# EAGLE library part XMOS_X0 (library sjg-laser)
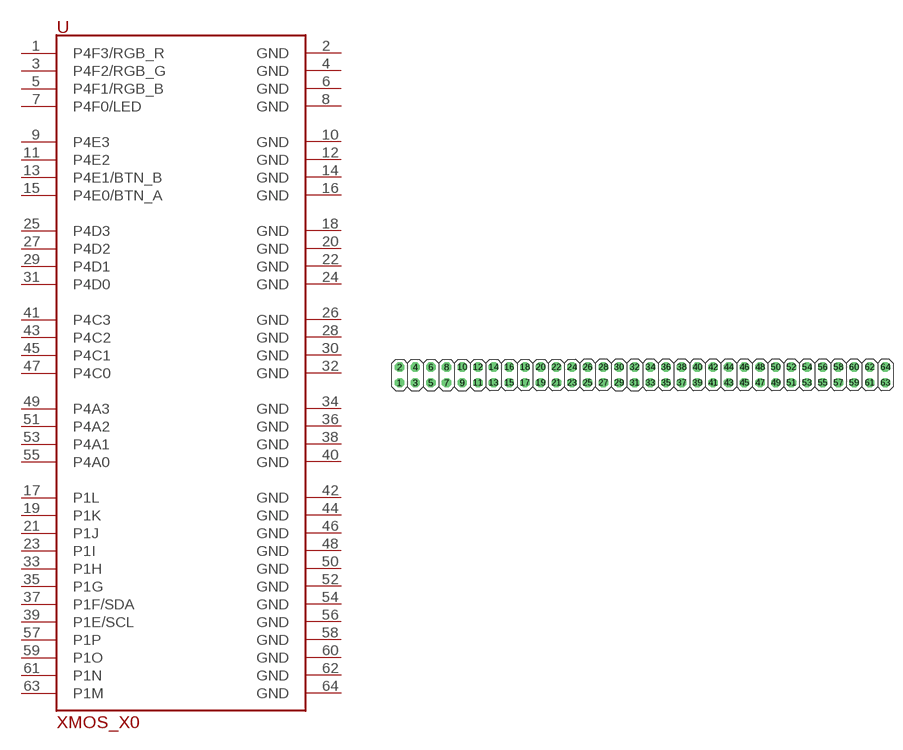
[diagram p1: symbol with the pads of 2X32; footprint 2X32]

Designator prefix -

## XMOS_X0  [2X32]
1  P4F3/RGB_R
2  GND
3  P4F2/RGB_G
4  GND
5  P4F1/RGB_B
6  GND
7  P4F0/LED
8  GND
9  P4E3
10  GND
11  P4E2
12  GND
13  P4E1/BTN_B
14  GND
15  P4E0/BTN_A
16  GND
17  P1L
18  GND
19  P1K
20  GND
21  P1J
22  GND
23  P1I
24  GND
25  P4D3
26  GND
27  P4D2
28  GND
29  P4D1
30  GND
31  P4D0
32  GND
33  P1H
34  GND
35  P1G
36  GND
37  P1F/SDA
38  GND
39  P1E/SCL
40  GND
41  P4C3
42  GND
43  P4C2
44  GND
45  P4C1
46  GND
47  P4C0
48  GND
49  P4A3
50  GND
51  P4A2
52  GND
53  P4A1
54  GND
55  P4A0
56  GND
57  P1P
58  GND
59  P1O
60  GND
61  P1N
62  GND
63  P1M
64  GND

## Footprint 2X32 (pad centres in mm)
PIN HEADER
drill 1.016 octagon: 1 -38.1,-1.27; 2 -38.1,1.27; 3 -35.56,-1.27; 4 -35.56,1.27; 5 -33.02,-1.27; 6 -33.02,1.27; 7 -30.48,-1.27; 8 -30.48,1.27; 9 -27.94,-1.27; 10 -27.94,1.27; 11 -25.4,-1.27; 12 -25.4,1.27; 13 -22.86,-1.27; 14 -22.86,1.27; 15 -20.32,-1.27; 16 -20.32,1.27; 17 -17.78,-1.27; 18 -17.78,1.27; 19 -15.24,-1.27; 20 -15.24,1.27; 21 -12.7,-1.27; 22 -12.7,1.27; 23 -10.16,-1.27; 24 -10.16,1.27; 25 -7.62,-1.27; 26 -7.62,1.27; 27 -5.08,-1.27; 28 -5.08,1.27; 29 -2.54,-1.27; 30 -2.54,1.27; 31 0,-1.27; 32 0,1.27; 33 2.54,-1.27; 34 2.54,1.27; 35 5.08,-1.27; 36 5.08,1.27; 37 7.62,-1.27; 38 7.62,1.27; 39 10.16,-1.27; 40 10.16,1.27; 41 12.7,-1.27; 42 12.7,1.27; 43 15.24,-1.27; 44 15.24,1.27; 45 17.78,-1.27; 46 17.78,1.27; 47 20.32,-1.27; 48 20.32,1.27; 49 22.86,-1.27; 50 22.86,1.27; 51 25.4,-1.27; 52 25.4,1.27; 53 27.94,-1.27; 54 27.94,1.27; 55 30.48,-1.27; 56 30.48,1.27; 57 33.02,-1.27; 58 33.02,1.27; 59 35.56,-1.27; 60 35.56,1.27; 61 38.1,-1.27; 62 38.1,1.27; 63 40.64,-1.27; 64 40.64,1.27